# Altium footprint library HDSP-B09G_new.PcbLib: 1 footprints
Each footprint in its own frame and in the unit in brackets; x right, y up, seen from the top. Pads: shape width x height; smd on the part's side, far side on the other; paste and mask are expansions set on the pad; w line width, h text height; cw(c..) or ccw(c..) is an arc to the next point about the centre after c.
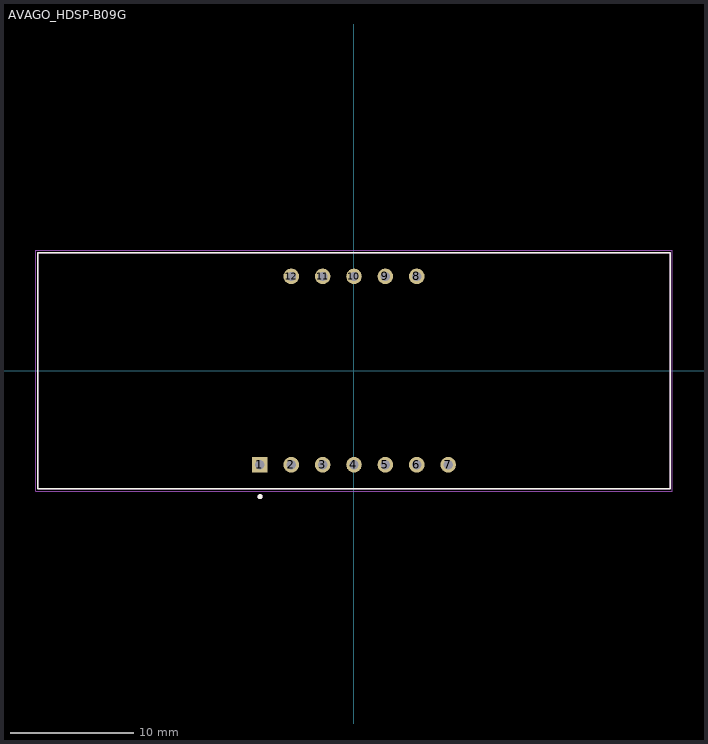
[diagram p0: the footprint, top view; thin cyan lines are the x and y axes]

## AVAGO_HDSP-B09G [mil]
pads (12):
  rect 49.69x49.69 hole 29.68: 1(-300,-300)
  round 49.69 hole 29.68: 2(-200,-300) 3(-100,-300) 4(0,-300) 5(100,-300) 6(200,-300) 7(300,-300) 8(200,300) 9(100,300) 10(0,300) 11(-100,300) 12(-200,300)
Top Overlay:
  circle w7.87: c-299.21,-401.57 r3.94
  lines w5: -1007.87,-375.98 1007.87,-375.98 1007.87,375.98 -1007.87,375.98 -1007.87,-375.98
Mechanical 13:
  circle w7.87: c-299.21,-401.57 r3.94
  lines w5: -1007.87,-375.98 -1007.87,375.98 1007.87,375.98 1007.87,-375.98 -1007.87,-375.98
Mechanical 15:
  lines w1.97: -1013.78,-383.86 -1013.78,383.86 1013.78,383.86 1013.78,-383.86 -1013.78,-383.86
3D body "HDSP-B09G--3DModel-STEP-269445.STEP": height 314.96, standoff -157.48, extent -1007.87,-375.98 1007.87,375.98